# Altium footprint library Main Board PCB Lib.PcbLib: 20 footprints (part 2 of 2)
Each footprint in its own frame and in the unit in brackets; x right, y up, seen from the top. Pads: shape width x height; smd on the part's side, far side on the other; paste and mask are expansions set on the pad; w line width, h text height; cw(c..) or ccw(c..) is an arc to the next point about the centre after c.
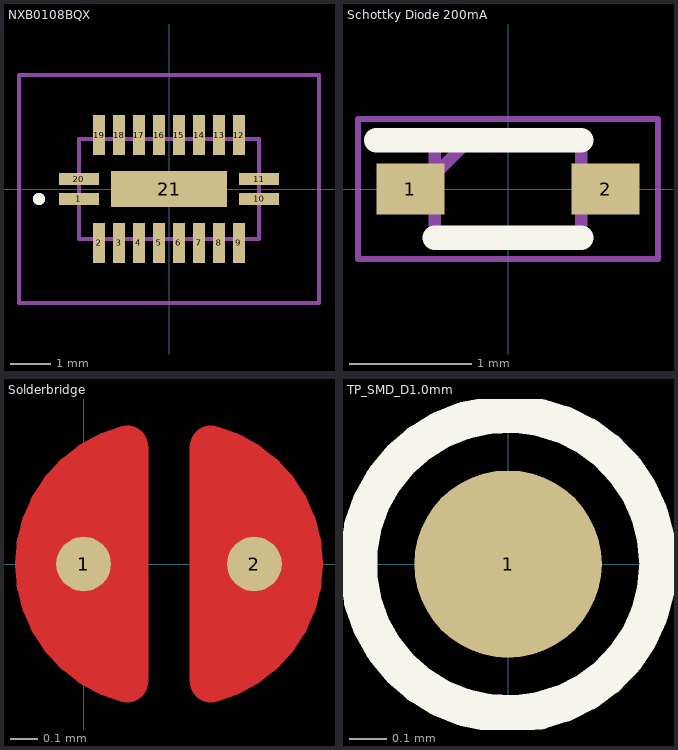
[diagram p1: the footprints below, top view; thin cyan lines are the x and y axes]

## NXB0108BQX [mm]
pads (21):
  rect 1x0.29 smd: 1(-2.25,-0.25) 10(2.25,-0.25) 11(2.25,0.25) 20(-2.25,0.25)
  rect 0.29x1 smd: 2(-1.75,-1.35) 3(-1.25,-1.35) 4(-0.75,-1.35) 5(-0.25,-1.35) 6(0.25,-1.35) 7(0.75,-1.35) 8(1.25,-1.35) 9(1.75,-1.35) 12(1.75,1.35) 13(1.25,1.35) 14(0.75,1.35) 15(0.25,1.35) 16(-0.25,1.35) 17(-0.75,1.35) 18(-1.25,1.35) 19(-1.75,1.35)
  rect 2.9x0.9 smd: 21(0,0)
Top Overlay:
  lines w0.2: -3.3,-0.25 ccw(c-3.25,-0.25) -3.2,-0.25 ; -3.3,-0.25 cw(c-3.25,-0.25) -3.2,-0.25 ; -3.3,-0.25 ccw(c-3.25,-0.25) -3.2,-0.25
Mechanical 13:
  lines w0.1: -2.25,-1.25 -2.25,1.25 2.25,1.25 2.25,-1.25 -2.25,-1.25
Mechanical 15:
  lines w0.1: -3.75,-2.85 -3.75,2.85 3.75,2.85 3.75,-2.85 -3.75,-2.85
3D body "NXB0108BQX.stp": height 1.1, standoff 0, extent -2.25,-1.25 2.25,1.25

## Schottky Diode 200mA [mm]
pads (2):
  rect 0.56x0.42 smd: 1(-0.8,0) 2(0.8,0)
Top Overlay:
  lines w0.2: -1.08,0.4 0.6,0.4 ; -0.6,-0.4 0.6,-0.4
Mechanical 13:
  lines w0.1: -0.6,0.12 -0.32,0.4 ; -0.6,-0.4 -0.6,0.4 0.6,0.4 0.6,-0.4 -0.6,-0.4
Mechanical 15:
  lines w0.05: -1.23,-0.575 -1.23,0.575 1.23,0.575 1.23,-0.575 -1.23,-0.575
3D body "RB531SM-30FHT2R.stp": height 0.7, standoff 0, extent -0.8,-0.4 0.8,0.4

## Solderbridge [mm]
pads (2):
  round 0.2 smd paste-10: 1(0,0) 2(0.625,0)
Top Layer:
  region: 0.389,0.432 0.465,0.505 0.583,0.467 0.648,0.424 0.721,0.351 0.775,0.292 0.833,0.193 0.861,0.099 0.856,-0.122 0.831,-0.193 0.747,-0.33 0.663,-0.411 0.571,-0.469 0.47,-0.5 0.419,-0.483 0.389,-0.43
  region: 0.236,-0.432 0.16,-0.505 0.042,-0.467 -0.023,-0.424 -0.097,-0.351 -0.15,-0.292 -0.208,-0.193 -0.236,-0.099 -0.231,0.122 -0.206,0.193 -0.122,0.33 -0.038,0.411 0.054,0.469 0.155,0.5 0.206,0.483 0.236,0.43
  lines w0.152: 0.159,-0.431 cw(c0.27,0) 0.159,0.431 ; 0.465,-0.431 ccw(c0.355,0) 0.465,0.431
Top Solder:
  circle w0.61: c0.31,0 r0.279

## TP_SMD_D1.0mm [mm]
pads (1):
  round 0.5 smd paste-5: 1(0,0)
Top Overlay:
  circle w0.1: c0,0 r0.4